# Altium footprint library HDR_2X5_2.54_RA_FM.PcbLib: 1 footprints
Each footprint in its own frame and in the unit in brackets; x right, y up, seen from the top. Pads: shape width x height; smd on the part's side, far side on the other; paste and mask are expansions set on the pad; w line width, h text height; cw(c..) or ccw(c..) is an arc to the next point about the centre after c.
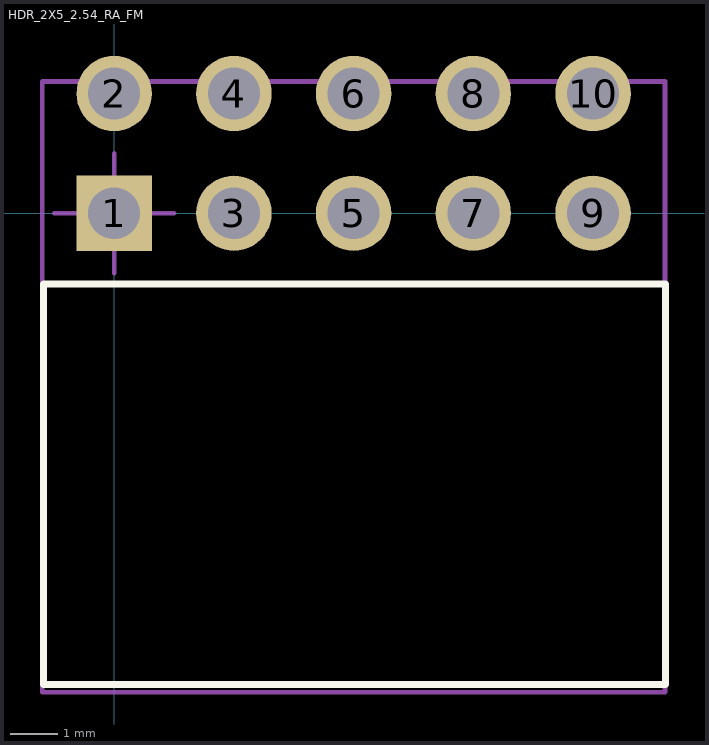
[diagram p0: the footprint, top view; thin cyan lines are the x and y axes]

## HDR_2X5_2.54_RA_FM [mm]
height 5.08
pads (10):
  rect 1.6x1.6 hole 1.1 mask+0.05: 1(0,0)
  round 1.6 hole 1.1 mask+0.05: 2(0,2.54) 3(2.54,0) 4(2.54,2.54) 5(5.08,0) 6(5.08,2.54) 7(7.62,0) 8(7.62,2.54) 9(10.16,0) 10(10.16,2.54)
Top Overlay:
  lines w0.15: -1.5,-10 -1.5,-1.5 11.7,-1.5 11.7,-10 -1.5,-10
Mechanical 15:
  lines w0.1: -1.27,0 1.27,0 ; 0,-1.27 0,1.27 ; -1.524,-10.16 11.684,-10.16 11.684,2.794 -1.524,2.794 -1.524,-10.16
3D body: height 5.1, standoff -4.45, extent -1.52,-10.16 11.68,2.68